# Altium footprint library 20D-9.PcbLib: 1 footprints
Each footprint in its own frame and in the unit in brackets; x right, y up, seen from the top. Pads: shape width x height; smd on the part's side, far side on the other; paste and mask are expansions set on the pad; w line width, h text height; cw(c..) or ccw(c..) is an arc to the next point about the centre after c.
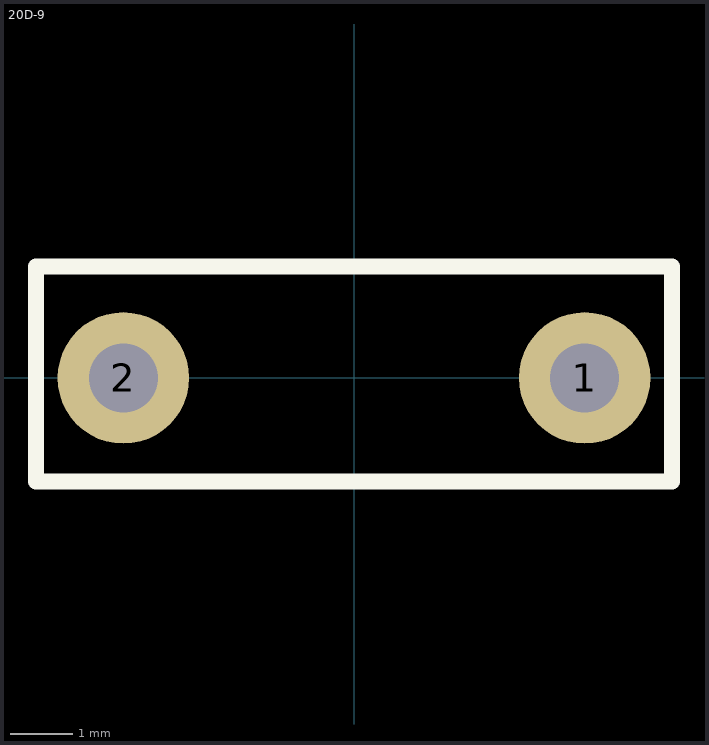
[diagram p0: the footprint, top view; thin cyan lines are the x and y axes]

## 20D-9 [mm]
pads (2):
  round 2.1 hole 1.1: 1(3.683,0) 2(-3.683,0)
Top Overlay:
  lines w0.254: -5.08,-1.651 5.08,-1.651 5.08,1.778 -5.08,1.778 -5.08,-1.651
3D body "Термистор 20D-9.STEP": height 13.37, standoff -1.4, extent -4.4,-3.5 4.4,3.5